# Altium schematic symbol library thuvienthong_Module.SchLib: 8 symbols
Pins are listed as number, name and electrical type; pins without a type are passive.

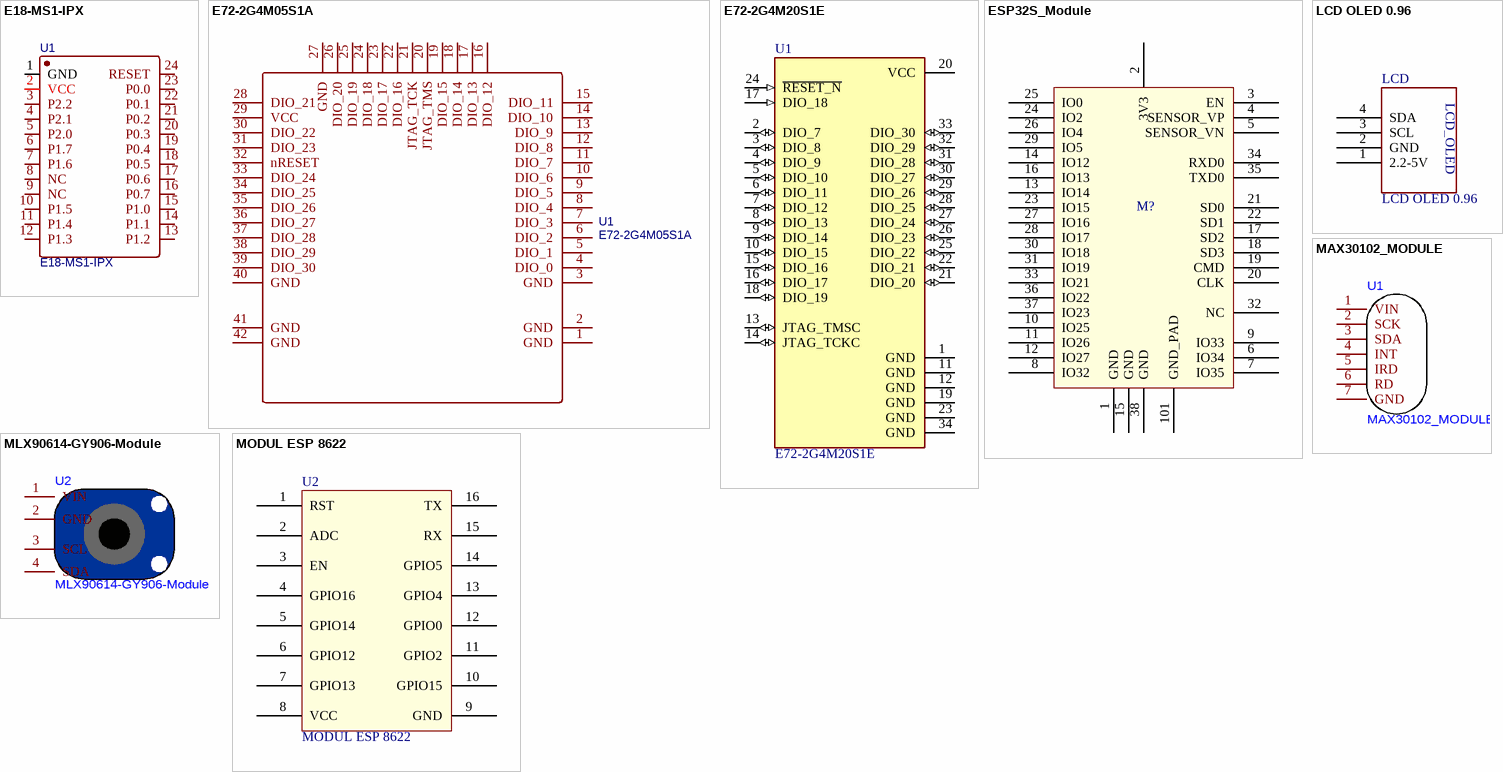
[diagram p0: symbols E18-MS1-IPX to MODUL ESP 8622]

## E18-MS1-IPX
designator U1
BOM_Manufacturer: EBYTE; Contributor: LCSC; BOM_Supplier: LCSC; BOM_Manufacturer Part: E18-MS1-IPX; BOM_Supplier Part: C108540; BOM_JLCPCB Part Class: Extended Part; spicePre: U; spiceSymbolName: E18-MS1-IPX
footprint Module_E18_CC2530
pins: 1 GND, 2 VCC, 3 P2.2, 4 P2.1, 5 P2.0, 6 P1.7, 7 P1.6, 8 NC, 9 NC, 10 P1.5, 11 P1.4, 12 P1.3, 13 P1.2, 14 P1.1, 15 P1.0, 16 P0.7, 17 P0.6, 18 P0.5, 19 P0.4, 20 P0.3, 21 P0.2, 22 P0.1, 23 P0.0, 24 RESET

## E72-2G4M05S1A
designator U1
BOM_Manufacturer: Chengdu Ebyte Elec Tech; Contributor: LCSC; BOM_Supplier: LCSC; BOM_Supplier Part: C411301; BOM_Manufacturer Part: E72-2G4M05S1A; BOM_JLCPCB Part Class: Extended Part; spicePre: U; spiceSymbolName: E72-2G4M05S1A
footprint E72-2G4M05S1A (Footprint not found)
pins: 1 GND, 2 GND, 3 GND, 4 DIO_0, 5 DIO_1, 6 DIO_2, 7 DIO_3, 8 DIO_4, 9 DIO_5, 10 DIO_6, 11 DIO_7, 12 DIO_8, 13 DIO_9, 14 DIO_10, 15 DIO_11, 16 DIO_12, 17 DIO_13, 18 DIO_14, 19 DIO_15, 20 JTAG_TMS, 21 JTAG_TCK, 22 DIO_16, 23 DIO_17, 24 DIO_18, 25 DIO_19, 26 DIO_20, 27 GND, 28 DIO_21, 29 VCC, 30 DIO_22, 31 DIO_23, 32 nRESET, 33 DIO_24, 34 DIO_25, 35 DIO_26, 36 DIO_27, 37 DIO_28, 38 DIO_29, 39 DIO_30, 40 GND, 41 GND, 42 GND

## E72-2G4M20S1E
designator U1
CC2652P Multifunctional SoC wireless module; MF: EBYTE; Package: Package; Value: *; SnapEDA_Link: https://www.snapeda.com/parts/E72-2G4M20S1E/EBYTE/view-part/5825256/?ref=snap; Price: None; MP: E72-2G4M20S1E; Check_prices: https://www.snapeda.com/parts/E72-2G4M20S1E/EBYTE/view-part/5825256/?ref=eda; Availability: Unavailable
footprint Module E72
footprint Module_E72
pins: 1 GND (power), 2 DIO_7 (io), 3 DIO_8 (io), 4 DIO_9 (io), 5 DIO_10 (io), 6 DIO_11 (io), 7 DIO_12 (io), 8 DIO_13 (io), 9 DIO_14 (io), 10 DIO_15 (io), 11 GND (power), 12 GND (power), 13 JTAG_TMSC (io), 14 JTAG_TCKC (io), 15 DIO_16 (io), 16 DIO_17 (io), 17 DIO_18 (in), 18 DIO_19 (io), 19 GND (power), 20 VCC (power), 21 DIO_20 (io), 22 DIO_21 (io), 23 GND (power), 24 ~{RESET_N} (in), 25 DIO_22 (io), 26 DIO_23 (io), 27 DIO_24 (io), 28 DIO_25 (io), 29 DIO_26 (io), 30 DIO_27 (io), 31 DIO_28 (io), 32 DIO_29 (io), 33 DIO_30 (io), 34 GND (power)

## ESP32S_Module
designator M?  (value not drawn)
Esp-32S; Datasheet: https://espressif.com/sites/default/files/documentation/esp_wroom_32_datasheet_en.pdf
footprint ESP32
pins: 1 GND (power), 2 3V3 (power), 3 EN (power), 4 SENSOR_VP, 5 SENSOR_VN, 6 IO34, 7 IO35, 8 IO32, 9 IO33, 10 IO25, 11 IO26, 12 IO27, 13 IO14, 14 IO12, 15 GND (power), 16 IO13, 17 SD2, 18 SD3, 19 CMD, 20 CLK, 21 SD0, 22 SD1, 23 IO15, 24 IO2, 25 IO0, 26 IO4, 27 IO16, 28 IO17, 29 IO5, 30 IO18, 31 IO19, 32 NC, 33 IO21, 34 RXD0, 35 TXD0, 36 IO22, 37 IO23, 38 GND (power), 101 GND_PAD (power)

## LCD OLED 0.96
designator LCD
footprint I2C - OLED 0.96" 128X64
pins: 1 2.2-5V, 2 GND, 3 SCL, 4 SDA
text: LCD_OLED

## MAX30102_MODULE
designator U1
footprint MAX30102
pins: 1 VIN, 2 SCK, 3 SDA, 4 INT, 5 IRD, 6 RD, 7 GND

## MLX90614-GY906-Module
designator U2
footprint MLX90614
pins: 1 VIN, 2 GND, 3 SCL, 4 SDA

## MODUL ESP 8622
designator U2
footprint esp8622 v7
pins: 1 RST, 2 ADC, 3 EN, 4 GPIO16, 5 GPIO14, 6 GPIO12, 7 GPIO13, 8 VCC, 9 GND, 10 GPIO15, 11 GPIO2, 12 GPIO0, 13 GPIO4, 14 GPIO5, 15 RX, 16 TX